# Altium footprint library SKY13575-639LF.PcbLib: 3 footprints
Each footprint in its own frame and in the unit in brackets; x right, y up, seen from the top. Pads: shape width x height; smd on the part's side, far side on the other; paste and mask are expansions set on the pad; w line width, h text height; cw(c..) or ccw(c..) is an arc to the next point about the centre after c.
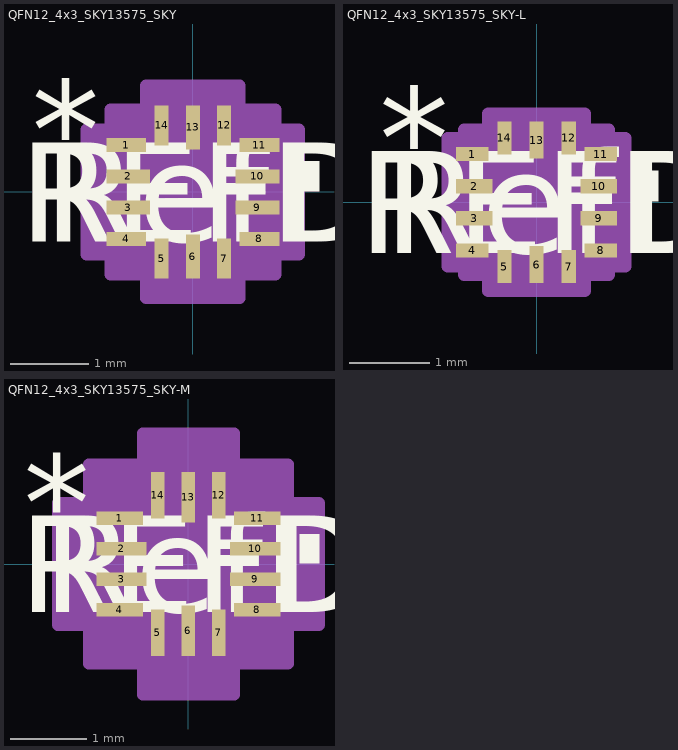
[diagram p0: the footprints below, top view; thin cyan lines are the x and y axes]

## QFN12_4x3_SKY13575_SKY [mil]
pads (14):
  rect 20x7 smd paste+0 mask+0: 1(-33.5,23.62) 4(-33.5,-23.62) 8(33.5,-23.62) 11(33.5,23.62)
  rect 22x7 smd paste+0 mask+0: 2(-32.5,7.87) 3(-32.5,-7.87) 9(32.5,-7.87) 10(32.5,7.87)
  rect 7x20 smd paste+0 mask+0: 5(-15.75,-33.5) 7(15.75,-33.5) 12(15.75,33.5) 14(-15.75,33.5)
  rect 7x22 smd paste+0 mask+0: 6(0,-32.5) 13(0,32.5)
Top Overlay:
  region: 53.5,15.37 63.5,15.37 63.5,0.37 53.5,0.37
  text "*" at -81,6.5 h50
  text "RefDes" at -75,-25 h50
  text "REFDES" at -87.5,-25 h50
Mechanical 13:
  lines w1: -31.5,-18.5 18.5,31.5 ; -31.5,-31.5 31.5,-31.5 ; -31.5,-31.5 -31.5,31.5 ; -31.5,-31.5 -31.5,-31.5 ; -31.5,-28.12 -31.5,-19.12 ; -31.5,-28.12 -31.5,-19.12 ; -31.5,-28.12 -31.5,-28.12 ; -31.5,-19.12 -31.5,-19.12 ; -31.5,-12.37 -31.5,-3.37 ; -31.5,-12.37 -31.5,-3.37 ; -31.5,-12.37 -31.5,-12.37 ; -31.5,-3.37 -31.5,-3.37 ; -31.5,3.37 -31.5,12.37 ; -31.5,3.37 -31.5,12.37 ; -31.5,3.37 -31.5,3.37 ; -31.5,12.37 -31.5,12.37 ; -31.5,19.12 -31.5,28.12 ; -31.5,19.12 -31.5,28.12 ; -31.5,19.12 -31.5,19.12 ; -31.5,28.12 -31.5,28.12 ; -31.5,31.5 31.5,31.5 ; -31.5,31.5 -31.5,31.5 ; -20.25,-31.5 -11.25,-31.5 ; -20.25,-31.5 -20.25,-31.5 ; -20.25,-31.5 -11.25,-31.5 ; -20.25,31.5 -11.25,31.5 ; -20.25,31.5 -11.25,31.5 ; -20.25,31.5 -20.25,31.5 ; -11.25,-31.5 -11.25,-31.5 ; -11.25,31.5 -11.25,31.5 ; -4.5,-31.5 4.5,-31.5 ; -4.5,-31.5 -4.5,-31.5 ; -4.5,-31.5 4.5,-31.5 ; -4.5,31.5 4.5,31.5 ; -4.5,31.5 4.5,31.5 ; -4.5,31.5 -4.5,31.5 ; 4.5,-31.5 4.5,-31.5 ; 4.5,31.5 4.5,31.5 ; 11.25,-31.5 20.25,-31.5 ; 11.25,-31.5 11.25,-31.5 ; 11.25,-31.5 20.25,-31.5 ; 11.25,31.5 20.25,31.5 ; 11.25,31.5 20.25,31.5 ; 11.25,31.5 11.25,31.5 ; 20.25,-31.5 20.25,-31.5 ; 20.25,31.5 20.25,31.5 ; 31.5,-31.5 31.5,-31.5 ; 31.5,-31.5 31.5,31.5 ; 31.5,-28.12 31.5,-19.12 ; 31.5,-28.12 31.5,-28.12 ; 31.5,-28.12 31.5,-19.12 ; 31.5,-19.12 31.5,-19.12 ; 31.5,-12.37 31.5,-3.37 ; 31.5,-12.37 31.5,-12.37 ; 31.5,-12.37 31.5,-3.37 ; 31.5,-3.37 31.5,-3.37 ; 31.5,3.37 31.5,12.37 ; 31.5,3.37 31.5,3.37 ; 31.5,3.37 31.5,12.37 ; 31.5,12.37 31.5,12.37 ; 31.5,19.12 31.5,28.12 ; 31.5,19.12 31.5,19.12 ; 31.5,19.12 31.5,28.12 ; 31.5,28.12 31.5,28.12 ; 31.5,31.5 31.5,31.5
  text "*" at -34,6.5 h50
  text "RefDes2" at -87.5,-25 h50
Mechanical 15:
  region: -23.62,-41.5 -41.5,-41.5 -41.5,-31.5 -53.5,-31.5 -53.5,31.5 -41.5,31.5 -41.5,41.5 -23.62,41.5 -23.62,53.5 23.62,53.5 23.62,41.5 41.5,41.5 41.5,31.5 53.5,31.5 53.5,-31.5 41.5,-31.5 41.5,-41.5 23.62,-41.5 23.62,-53.5 -23.62,-53.5
  lines w6: -53.5,-31.5 -41.5,-31.5 -41.5,-41.5 -23.62,-41.5 -23.62,-53.5 23.62,-53.5 23.62,-41.5 41.5,-41.5 41.5,-31.5 53.5,-31.5 53.5,31.5 41.5,31.5 41.5,41.5 23.62,41.5 23.62,53.5 -23.62,53.5 -23.62,41.5 -41.5,41.5 -41.5,31.5 -53.5,31.5 -53.5,-31.5
3D body "QFN12_4x3_SKY13575_SKY.step": height 17.09, standoff 0, extent -31.5,-31.5 31.5,31.5

## QFN12_4x3_SKY13575_SKY-L [mil]
pads (14):
  rect 16x7 smd paste+0 mask+0: 1(-31.5,23.62) 4(-31.5,-23.62) 8(31.5,-23.62) 11(31.5,23.62)
  rect 18x7 smd paste+0 mask+0: 2(-30.5,7.87) 3(-30.5,-7.87) 9(30.5,-7.87) 10(30.5,7.87)
  rect 7x16 smd paste+0 mask+0: 5(-15.75,-31.5) 7(15.75,-31.5) 12(15.75,31.5) 14(-15.75,31.5)
  rect 7x18 smd paste+0 mask+0: 6(0,-30.5) 13(0,30.5)
Top Overlay:
  region: 49.5,15.37 59.5,15.37 59.5,0.37 49.5,0.37
  text "*" at -77,6.5 h50
  text "RefDes" at -75,-25 h50
  text "REFDES" at -87.5,-25 h50
Mechanical 13:
  lines w1: -31.5,-18.5 18.5,31.5 ; -31.5,-31.5 31.5,-31.5 ; -31.5,-31.5 -31.5,31.5 ; -31.5,-31.5 -31.5,-31.5 ; -31.5,-28.12 -31.5,-19.12 ; -31.5,-28.12 -31.5,-19.12 ; -31.5,-28.12 -31.5,-28.12 ; -31.5,-19.12 -31.5,-19.12 ; -31.5,-12.37 -31.5,-3.37 ; -31.5,-12.37 -31.5,-3.37 ; -31.5,-12.37 -31.5,-12.37 ; -31.5,-3.37 -31.5,-3.37 ; -31.5,3.37 -31.5,12.37 ; -31.5,3.37 -31.5,12.37 ; -31.5,3.37 -31.5,3.37 ; -31.5,12.37 -31.5,12.37 ; -31.5,19.12 -31.5,28.12 ; -31.5,19.12 -31.5,28.12 ; -31.5,19.12 -31.5,19.12 ; -31.5,28.12 -31.5,28.12 ; -31.5,31.5 31.5,31.5 ; -31.5,31.5 -31.5,31.5 ; -20.25,-31.5 -11.25,-31.5 ; -20.25,-31.5 -20.25,-31.5 ; -20.25,-31.5 -11.25,-31.5 ; -20.25,31.5 -11.25,31.5 ; -20.25,31.5 -11.25,31.5 ; -20.25,31.5 -20.25,31.5 ; -11.25,-31.5 -11.25,-31.5 ; -11.25,31.5 -11.25,31.5 ; -4.5,-31.5 4.5,-31.5 ; -4.5,-31.5 -4.5,-31.5 ; -4.5,-31.5 4.5,-31.5 ; -4.5,31.5 4.5,31.5 ; -4.5,31.5 4.5,31.5 ; -4.5,31.5 -4.5,31.5 ; 4.5,-31.5 4.5,-31.5 ; 4.5,31.5 4.5,31.5 ; 11.25,-31.5 20.25,-31.5 ; 11.25,-31.5 11.25,-31.5 ; 11.25,-31.5 20.25,-31.5 ; 11.25,31.5 20.25,31.5 ; 11.25,31.5 20.25,31.5 ; 11.25,31.5 11.25,31.5 ; 20.25,-31.5 20.25,-31.5 ; 20.25,31.5 20.25,31.5 ; 31.5,-31.5 31.5,-31.5 ; 31.5,-31.5 31.5,31.5 ; 31.5,-28.12 31.5,-19.12 ; 31.5,-28.12 31.5,-28.12 ; 31.5,-28.12 31.5,-19.12 ; 31.5,-19.12 31.5,-19.12 ; 31.5,-12.37 31.5,-3.37 ; 31.5,-12.37 31.5,-12.37 ; 31.5,-12.37 31.5,-3.37 ; 31.5,-3.37 31.5,-3.37 ; 31.5,3.37 31.5,12.37 ; 31.5,3.37 31.5,3.37 ; 31.5,3.37 31.5,12.37 ; 31.5,12.37 31.5,12.37 ; 31.5,19.12 31.5,28.12 ; 31.5,19.12 31.5,19.12 ; 31.5,19.12 31.5,28.12 ; 31.5,28.12 31.5,28.12 ; 31.5,31.5 31.5,31.5
  text "*" at -34,6.5 h50
  text "RefDes2" at -87.5,-25 h50
Mechanical 15:
  region: -23.62,-35.5 -35.5,-35.5 -35.5,-31.5 -43.5,-31.5 -43.5,31.5 -35.5,31.5 -35.5,35.5 -23.62,35.5 -23.62,43.5 23.62,43.5 23.62,35.5 35.5,35.5 35.5,31.5 43.5,31.5 43.5,-31.5 35.5,-31.5 35.5,-35.5 23.62,-35.5 23.62,-43.5 -23.62,-43.5
  lines w6: -43.5,-31.5 -35.5,-31.5 -35.5,-35.5 -23.62,-35.5 -23.62,-43.5 23.62,-43.5 23.62,-35.5 35.5,-35.5 35.5,-31.5 43.5,-31.5 43.5,31.5 35.5,31.5 35.5,35.5 23.62,35.5 23.62,43.5 -23.62,43.5 -23.62,35.5 -35.5,35.5 -35.5,31.5 -43.5,31.5 -43.5,-31.5
3D body "QFN12_4x3_SKY13575_SKY.step": height 17.09, standoff 0, extent -31.5,-31.5 31.5,31.5

## QFN12_4x3_SKY13575_SKY-M [mil]
pads (14):
  rect 24x7 smd paste+0 mask+0: 1(-35.5,23.62) 4(-35.5,-23.62) 8(35.5,-23.62) 11(35.5,23.62)
  rect 26x7 smd paste+0 mask+0: 2(-34.5,7.87) 3(-34.5,-7.87) 9(34.5,-7.87) 10(34.5,7.87)
  rect 7x24 smd paste+0 mask+0: 5(-15.75,-35.5) 7(15.75,-35.5) 12(15.75,35.5) 14(-15.75,35.5)
  rect 7x26 smd paste+0 mask+0: 6(0,-34.5) 13(0,34.5)
Top Overlay:
  region: 57.5,15.37 67.5,15.37 67.5,0.37 57.5,0.37
  text "*" at -85,6.5 h50
  text "RefDes" at -75,-25 h50
  text "REFDES" at -87.5,-25 h50
Mechanical 13:
  lines w1: -31.5,-18.5 18.5,31.5 ; -31.5,-31.5 31.5,-31.5 ; -31.5,-31.5 -31.5,31.5 ; -31.5,-31.5 -31.5,-31.5 ; -31.5,-28.12 -31.5,-19.12 ; -31.5,-28.12 -31.5,-19.12 ; -31.5,-28.12 -31.5,-28.12 ; -31.5,-19.12 -31.5,-19.12 ; -31.5,-12.37 -31.5,-3.37 ; -31.5,-12.37 -31.5,-3.37 ; -31.5,-12.37 -31.5,-12.37 ; -31.5,-3.37 -31.5,-3.37 ; -31.5,3.37 -31.5,12.37 ; -31.5,3.37 -31.5,12.37 ; -31.5,3.37 -31.5,3.37 ; -31.5,12.37 -31.5,12.37 ; -31.5,19.12 -31.5,28.12 ; -31.5,19.12 -31.5,28.12 ; -31.5,19.12 -31.5,19.12 ; -31.5,28.12 -31.5,28.12 ; -31.5,31.5 31.5,31.5 ; -31.5,31.5 -31.5,31.5 ; -20.25,-31.5 -11.25,-31.5 ; -20.25,-31.5 -20.25,-31.5 ; -20.25,-31.5 -11.25,-31.5 ; -20.25,31.5 -11.25,31.5 ; -20.25,31.5 -11.25,31.5 ; -20.25,31.5 -20.25,31.5 ; -11.25,-31.5 -11.25,-31.5 ; -11.25,31.5 -11.25,31.5 ; -4.5,-31.5 4.5,-31.5 ; -4.5,-31.5 -4.5,-31.5 ; -4.5,-31.5 4.5,-31.5 ; -4.5,31.5 4.5,31.5 ; -4.5,31.5 4.5,31.5 ; -4.5,31.5 -4.5,31.5 ; 4.5,-31.5 4.5,-31.5 ; 4.5,31.5 4.5,31.5 ; 11.25,-31.5 20.25,-31.5 ; 11.25,-31.5 11.25,-31.5 ; 11.25,-31.5 20.25,-31.5 ; 11.25,31.5 20.25,31.5 ; 11.25,31.5 20.25,31.5 ; 11.25,31.5 11.25,31.5 ; 20.25,-31.5 20.25,-31.5 ; 20.25,31.5 20.25,31.5 ; 31.5,-31.5 31.5,-31.5 ; 31.5,-31.5 31.5,31.5 ; 31.5,-28.12 31.5,-19.12 ; 31.5,-28.12 31.5,-28.12 ; 31.5,-28.12 31.5,-19.12 ; 31.5,-19.12 31.5,-19.12 ; 31.5,-12.37 31.5,-3.37 ; 31.5,-12.37 31.5,-12.37 ; 31.5,-12.37 31.5,-3.37 ; 31.5,-3.37 31.5,-3.37 ; 31.5,3.37 31.5,12.37 ; 31.5,3.37 31.5,3.37 ; 31.5,3.37 31.5,12.37 ; 31.5,12.37 31.5,12.37 ; 31.5,19.12 31.5,28.12 ; 31.5,19.12 31.5,19.12 ; 31.5,19.12 31.5,28.12 ; 31.5,28.12 31.5,28.12 ; 31.5,31.5 31.5,31.5
  text "*" at -34,6.5 h50
  text "RefDes2" at -87.5,-25 h50
Mechanical 15:
  region: -23.62,-51.5 -51.5,-51.5 -51.5,-31.5 -67.5,-31.5 -67.5,31.5 -51.5,31.5 -51.5,51.5 -23.62,51.5 -23.62,67.5 23.62,67.5 23.62,51.5 51.5,51.5 51.5,31.5 67.5,31.5 67.5,-31.5 51.5,-31.5 51.5,-51.5 23.62,-51.5 23.62,-67.5 -23.62,-67.5
  lines w6: -67.5,-31.5 -51.5,-31.5 -51.5,-51.5 -23.62,-51.5 -23.62,-67.5 23.62,-67.5 23.62,-51.5 51.5,-51.5 51.5,-31.5 67.5,-31.5 67.5,31.5 51.5,31.5 51.5,51.5 23.62,51.5 23.62,67.5 -23.62,67.5 -23.62,51.5 -51.5,51.5 -51.5,31.5 -67.5,31.5 -67.5,-31.5
3D body "QFN12_4x3_SKY13575_SKY.step": height 17.09, standoff 0, extent -31.5,-31.5 31.5,31.5